# Altium footprint library smartChargerFPs.PcbLib: 5 footprints
Each footprint in its own frame and in the unit in brackets; x right, y up, seen from the top. Pads: shape width x height; smd on the part's side, far side on the other; paste and mask are expansions set on the pad; w line width, h text height; cw(c..) or ccw(c..) is an arc to the next point about the centre after c.
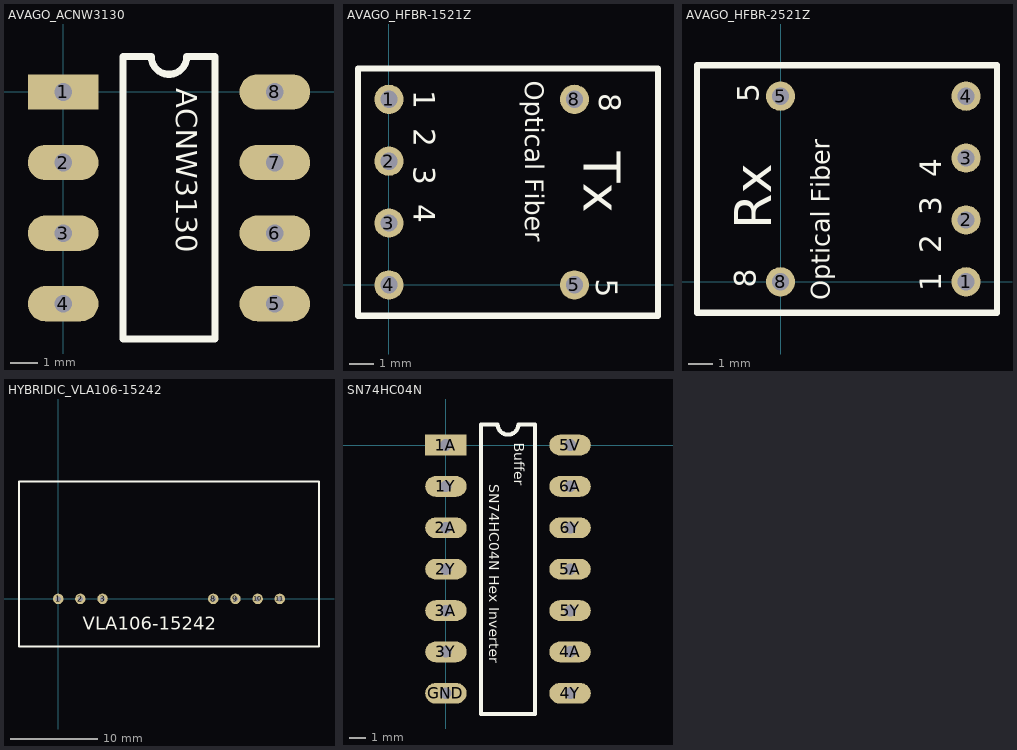
[diagram p0: the footprints below, top view; thin cyan lines are the x and y axes]

## AVAGO_ACNW3130 [mil]
pads (8):
  rect 100x50 hole 25: 1(0,0)
  oval 100x50 hole 25: 2(0,-100) 3(0,-200) 4(0,-300) 5(300,-300) 6(300,-200) 7(300,-100) 8(300,0)
Top Overlay:
  lines w10: 85,-350 215,-350 215,50 175,50 cw(c150,50) 125,50 85,50 85,-350
  text "ACNW3130" at 160,5 h30

## AVAGO_HFBR-1521Z [mm]
pads (6):
  round 1.2 hole 0.711: 1(0,7.62) 2(0,5.08) 3(0,2.54) 4(0,0) 5(7.62,0) 8(7.62,7.62)
Top Overlay:
  lines w0.254: 10.973,-1.27 -1.27,-1.27 -1.27,8.89 10.973,8.89 ; 11.049,-1.27 11.049,8.89
  text "5" at 8.509,0.254 h0.89
  text "Tx" at 8.001,5.461 h1.52
  text "8" at 8.636,7.874 h0.89
  text "Optical Fiber" at 5.588,8.382 h0.76
  text "1  2  3  4" at 1.016,8.001 h0.89

## AVAGO_HFBR-2521Z [mm]
pads (6):
  round 1.2 hole 0.711: 1(7.62,0) 2(7.62,2.54) 3(7.62,5.08) 4(7.62,7.62) 5(0,7.62) 8(0,0)
Top Overlay:
  lines w0.254: -3.429,-1.27 -3.429,8.89 ; -3.353,-1.27 8.89,-1.27 8.89,8.89 -3.353,8.89
  text "5" at -0.889,7.366 h0.89
  text "Rx" at -0.381,2.159 h1.52
  text "8" at -1.016,-0.254 h0.89
  text "Optical Fiber" at 2.032,-0.762 h0.76
  text "1  2  3  4" at 6.604,-0.381 h0.89

## HYBRIDIC_VLA106-15242 [mm]
pads (7):
  round 1.2 hole 0.6: 1(0,0) 2(2.54,0) 3(5.08,0) 8(17.78,0) 9(20.32,0) 10(22.86,0) 11(25.4,0)
Top Overlay:
  lines w0.2: -4.496,-5.486 -4.496,13.487 ; 29.896,-5.486 29.896,13.487
  lines w0.254: -4.445,-5.461 29.845,-5.461 ; -4.445,13.462 29.845,13.462
  text "VLA106-15242" at 2.794,-3.556 h1.52

## SN74HC04N [mil]
pads (14):
  rect 100x50 hole 28: 1A(0,0)
  oval 100x50 hole 28: 1Y(0,-100) 2A(0,-200) 2Y(0,-300) 3A(0,-400) 3Y(0,-500) 4A(300,-500) 4Y(300,-600) 5A(300,-300) 5V(300,0) 5Y(300,-400) 6A(300,-100) 6Y(300,-200) GND(0,-600)
Top Overlay:
  lines w10: 85,-650 215,-650 215,50 175,50 cw(c150,50) 125,50 85,50 85,-650
  text "Buffer" at 165,5 h25
  text "SN74HC04N Hex Inverter" at 105,-95 h25